# EAGLE library part ADS1115IDGSR (library FillControl)
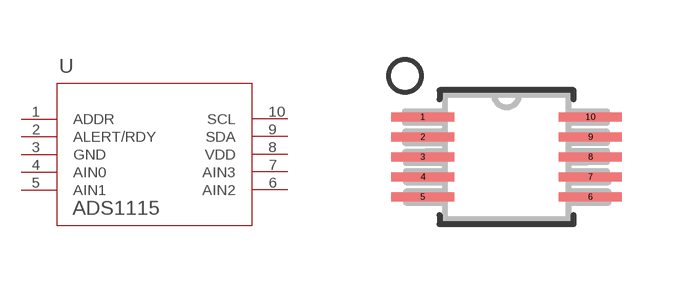
[diagram p2: symbol with the pads of DGS10; footprint DGS10]

Designator prefix U

## ADS1115IDGSR (MANUFACTURER_PART_NUMBER: ADS1115IDGSR; VENDOR: Texas Instruments)  [DGS10]
1  ADDR  in
2  ALERT/RDY  out
3  GND  pwr
4  AIN0  in
5  AIN1  in
6  AIN2  in
7  AIN3  in
8  VDD  pwr
9  SDA
10  SCL  in

## Footprint DGS10 (pad centres in mm)
smd 1.575 x 0.229: 1 -2.095,1; 2 -2.095,0.5; 3 -2.095,0; 4 -2.095,-0.5; 5 -2.095,-1; 6 2.095,-1; 7 2.095,-0.5; 8 2.095,0; 9 2.095,0.5; 10 2.095,1